# Altium footprint library Sykam-LagerBauteile1.PcbLib: 24 footprints (part 1 of 2)
Each footprint in its own frame and in the unit in brackets; x right, y up, seen from the top. Pads: shape width x height; smd on the part's side, far side on the other; paste and mask are expansions set on the pad; w line width, h text height; cw(c..) or ccw(c..) is an arc to the next point about the centre after c.
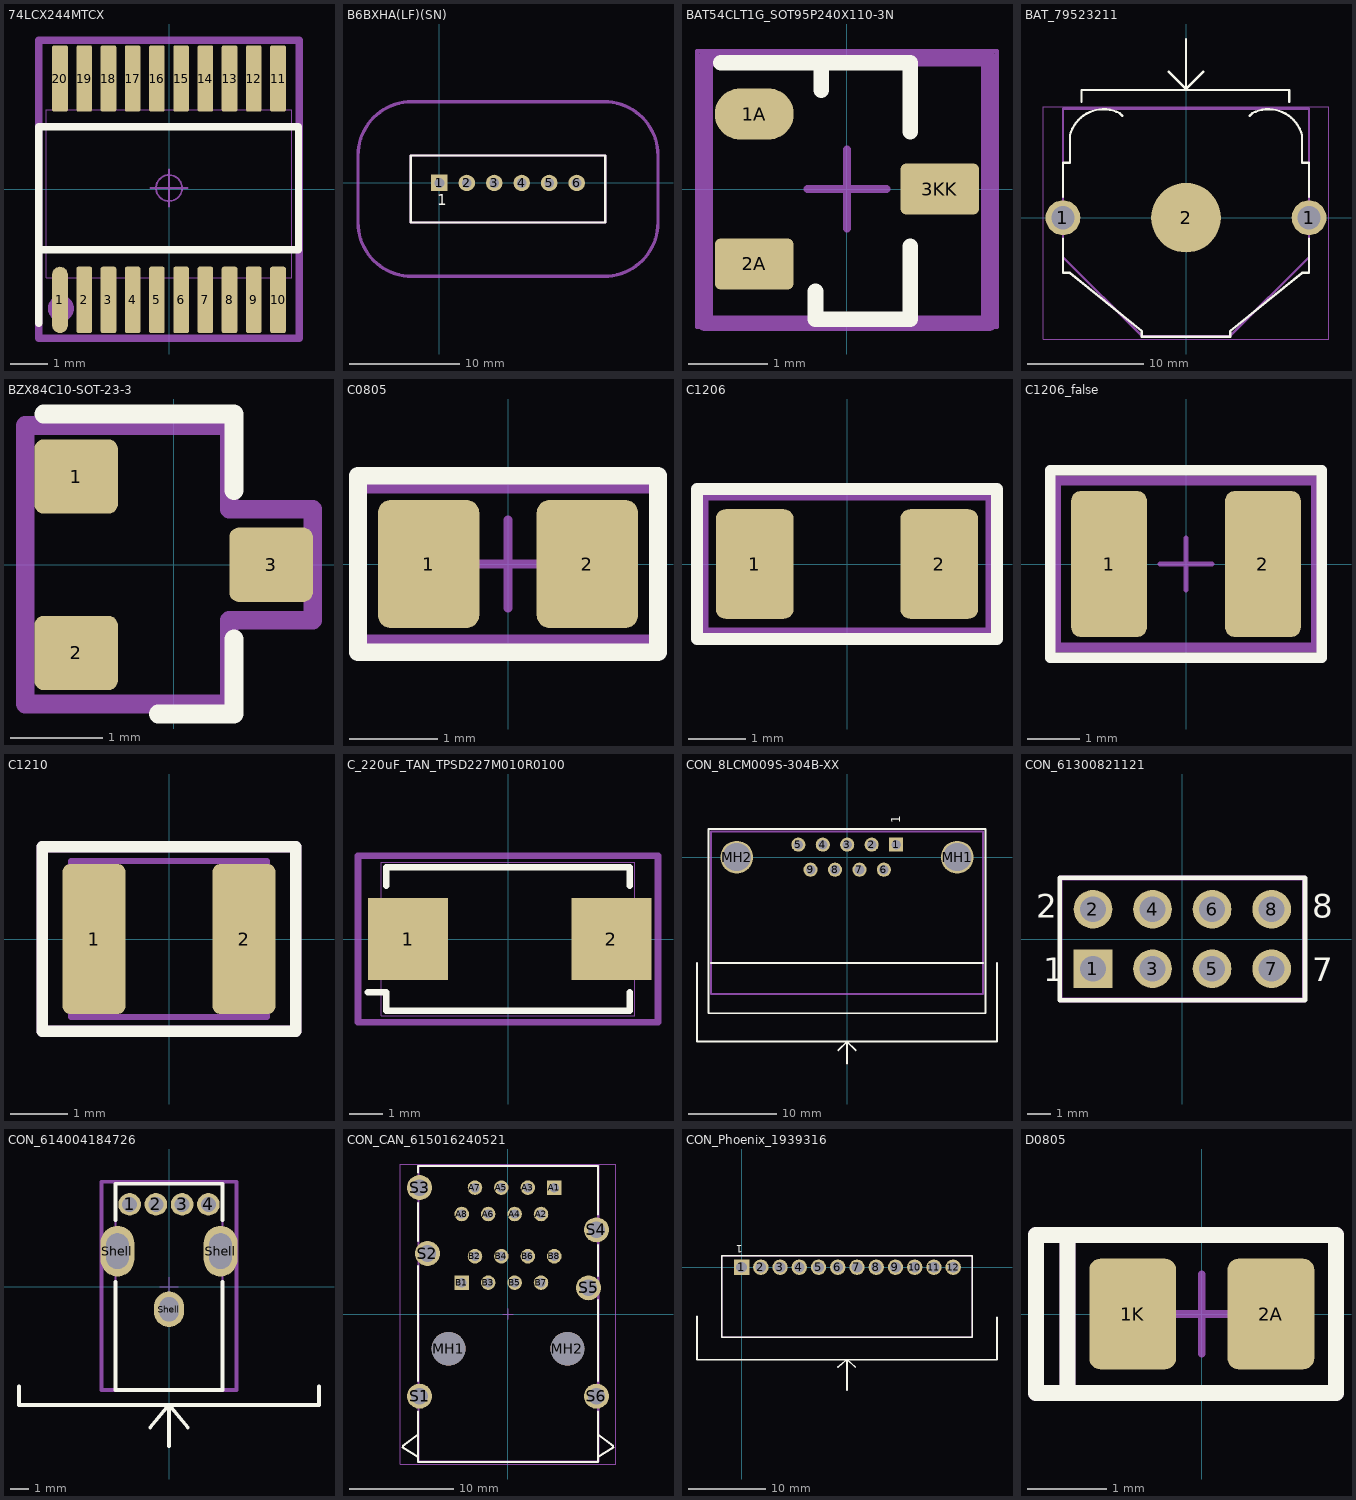
[diagram p0: the footprints below, top view; thin cyan lines are the x and y axes]

## 74LCX244MTCX [mm] "TSSOP20"
height 1.2
pads (20):
  oval 0.42x1.78 smd: 1(-2.925,-2.97)
  rrect25% 0.42x1.78 smd: 2(-2.275,-2.97) 3(-1.625,-2.97) 4(-0.975,-2.97) 5(-0.325,-2.97) 6(0.325,-2.97) 7(0.975,-2.97) 8(1.625,-2.97) 9(2.275,-2.97) 10(2.925,-2.97) 11(2.925,2.97) 12(2.275,2.97) 13(1.625,2.97) 14(0.975,2.97) 15(0.325,2.97) 16(-0.325,2.97) 17(-0.975,2.97) 18(-1.625,2.97) 19(-2.275,2.97) 20(-2.925,2.97)
Top Overlay:
  lines w0.2: -3.5,-3.6 -3.5,-2.3 -3.5,-1.62 ; -3.5,1.675 -3.5,-1.62 ; -3.5,1.68 3.475,1.68 3.475,-1.62 -3.5,-1.62
Mechanical 1:
  circle w0.05: c0,0.03 r0.35
  lines w0.05: -0.5,0.03 0.5,0.03 ; 0,-0.47 0,0.53 ; -3.5,-4.02 3.5,-4.02 3.5,4.03 -3.5,4.03 -3.5,-4.02
Mechanical 2:
  lines w0.001: -3.3,-2.37 3.3,-2.37 3.3,2.13 -3.3,2.13 -3.3,-2.37
Top Assembly:
  circle w0.254: c-2.9,-3.2 r0.224
  lines w0.2: -3.5,-4 -3.5,4 3.5,4 3.5,-4 -3.5,-4
  text ".designator" at -7.62,-0.508 h1.52
3D body: height 1.2, standoff 0, extent -3.3,-2.37 3.3,2.13

## B6BXHA(LF)(SN) [mm] "B6BXHA(LF)(SN) 6pol 2.5mm"
pads (6):
  rect 1.5x1.5 hole 0.9: 1(0,0)
  round 1.5 hole 0.9: 2(2.5,0) 3(5,0) 4(7.5,0) 5(10,0) 6(12.5,0)
Top Overlay:
  lines w0.2: -2.6,-3.6 -2.6,2.5 15.1,2.5 15.1,-3.6 -2.6,-3.6
  text "1" at -0.167,-2.046 h1
Top Assembly:
  circle w0.254: c0,0 r0.224
  lines w0.2: -2.6,-3.6 15.1,-3.6 15.1,2.5 -2.6,2.5 -2.6,-3.6
  text "1" at -0.167,-2.046 h1
  text ".designator" at -1.618,-0.338 h1.52
Mechanical 13:
  lines w0.3: -7.4,2.4 -7.4,-3.6 ccw(c-2.5,-3.6) -2.5,-8.5 15,-8.5 ccw(c15,-3.6) 19.9,-3.6 19.9,2.4 ; -7.4,2.5 cw(c-2.5,2.5) -2.5,7.4 15,7.4 cw(c15,2.5) 19.9,2.5
3D body "B6BXHA(LF)(SN).STEP": height 7.1, standoff -3.3, extent -2.45,-3.4 14.95,2.35

## BAT54CLT1G_SOT95P240X110-3N [mm] "SOT23, 3-Leads, Body 2,90x2,40mm, Pitch 0,95mm, IPC Medium Density"
height 1.1
pads (3):
  oval 1x0.65 smd: 1A(-1.175,0.95)
  rrect25% 1x0.65 smd: 2A(-1.175,-0.95) 3KK(1.175,0)
Top Overlay:
  lines w0.2: -1.6,1.6 -0.325,1.6 ; -0.4,-1.3 -0.4,-1.65 -0.325,-1.65 0.8,-1.65 0.8,-0.725 ; -0.325,1.25 -0.325,1.6 ; 0.8,0.725 0.8,1.6 -0.325,1.6
Top Assembly:
  circle w0.254: c-1.2,1 r0.1
  lines w0.2: -1.8,-1.7 -1.8,1.65 1.8,1.65 1.8,-1.7 -1.8,-1.7
  text ".designator" at -5.048,-0.467 h1
Mechanical 15:
  lines w0.05: -1.9,-1.75 -1.9,1.75 1.9,1.75 1.9,-1.75 -1.9,-1.75
  lines w0.1: -0.5,0 0.5,0 ; 0,-0.5 0,0.5
3D body "BSS84P_SOT95P240X110-3N.step": height 1.1, standoff 0, extent -1.325,-1.5 1.325,1.5

## BAT_79523211 [mm] "Battery Holder, Battery Type: 2016,2020,2025,2032"
height 3.8
pads (3):
  round 3 hole 2: 1(-10.6,0) 1(10.6,0)
  round 6 smd mask+0.2: 2(0,0)
Top Overlay:
  lines w0.2: -10.6,-1.8 -10.6,-4.75 -10,-4.75 -3.81,-9.762 -3.81,-10.25 3.81,-10.25 3.81,-9.762 10,-4.75 10.6,-4.75 10.6,-1.8 ; -10.6,1.8 -10.6,4.75 -10,4.75 -10,7.126 ; -9.998,7.126 cw(c-7.1,6.35) -5.737,9.023 ; -9,10 -9,11 8.9,11 8.9,10 ; -5.709,8.991 ccw(c-4.45,10.15) -5.469,8.775 ; -1.5,12.6 0,11.1 ; 0,15.4 0,11.1 ; 1.5,12.6 0,11.1 ; 5.469,8.775 ccw(c4.45,10.15) 5.709,8.991 ; 5.737,9.023 cw(c7.1,6.35) 9.998,7.126 ; 10,7.126 10,4.75 10.6,4.75 10.6,1.8
Top Assembly:
  lines w0.2: -10.6,-3.4 -10.6,1.8 -10.6,9.4 10.6,9.4 10.6,-3.4 3.8,-10.2 -3.8,-10.2 -10.6,-3.4
  text ".designator" at -7.618,-0.438 h1.52
Mechanical 15:
  lines w0.05: -0.5,0 0.5,0 ; 0,-0.5 0,0.5 ; -12.3,-10.45 12.3,-10.45 12.3,9.55 -12.3,9.55 -12.3,-10.45
3D body "79523211.stp": height 4.02, standoff -2.1, extent -11.299,-10.25 11.299,9.35

## BZX84C10-SOT-23-3 [mm] "SOT23, 3-Leads, Body 2.92x1.3mm, Pitch 0.95mm"
height 1.11
pads (3):
  rrect25% 0.9x0.8 smd: 1(-1.05,0.95) 2(-1.05,-0.95) 3(1.05,0)
Top Overlay:
  lines w0.2: -1.4,1.624 0.65,1.624 0.65,0.8 ; -0.165,-1.608 0.65,-1.608 0.65,-0.8
Top Assembly:
  circle w0.254: c-1.025,0.975 r0.195
  lines w0.2: -1.6,-1.5 -1.6,1.5 0.6,1.5 0.6,0.6 1.5,0.6 1.5,-0.6 0.6,-0.6 0.6,-1.5 -1.6,-1.5
  text ".designator" at -0.117,-3.999 h0.8
3D body "SOT23-3.stp": height 1.2, standoff 0.02, extent -1.418,-1.5 1.418,1.5

## C0805 [mm] "Chip Capacitor, 2-Leads, Body 2,00x1,25mm, IPC Medium Density"
height 1.1
pads (2):
  rrect25% 1.15x1.45 smd: 1(-0.9,0) 2(0.9,0)
Top Overlay:
  lines w0.2: -1.7,-1 -1.7,1 1.7,1 1.7,-1 -1.7,-1
Top Assembly:
  lines w0.2: -1.7,-0.9 -1.7,0.9 1.7,0.9 1.7,-0.9 -1.7,-0.9
  text ".designator" at -3.999,-0.183 h0.8
Mechanical 15:
  lines w0.05: -1.7,-1 -1.7,1 1.7,1 1.7,-1 -1.7,-1
  lines w0.1: -0.5,0 0.5,0 ; 0,-0.5 0,0.5
3D body "C0805.step": height 1.1, standoff 0, extent -1.075,-0.7 1.075,0.7

## C1206 [mm] "Chip Capacitor, 2-Leads, Body 3,35x2,50mm, IPC Medium Density"
height 2.3
pads (2):
  rrect25% 1.35x1.9 smd: 1(-1.6,0) 2(1.6,0)
Top Overlay:
  lines w0.2: -2.6,-1.3 -2.6,1.3 2.6,1.3 2.6,-1.3 -2.6,-1.3
Top Assembly:
  lines w0.2: -2.5,-1.2 -2.5,1.2 2.5,1.2 2.5,-1.2 -2.5,-1.2
  text ".designator" at -4.998,-0.317 h1
3D body "C1206-C104K5RAC7210.step": height 0.88, standoff 0, extent -1.7,-0.9 1.7,0.9

## C1206_false [mm] "Chip Capacitor, 2-Leads, Body 3,35x2,50mm, IPC Medium Density"
height 2.3
pads (2):
  rrect25% 1.45x2.8 smd: 1(-1.475,0) 2(1.475,0)
Top Overlay:
  lines w0.2: -2.6,-1.8 2.6,-1.8 2.6,1.8 -2.6,1.8 -2.6,-1.8
Top Assembly:
  lines w0.2: -2.5,-1.6 2.5,-1.6 2.5,1.6 -2.5,1.6 -2.5,-1.6
  text ".designator" at -4.998,-0.317 h1
Mechanical 15:
  lines w0.05: -2.45,-1.65 2.45,-1.65 2.45,1.65 -2.45,1.65 -2.45,-1.65
  lines w0.1: -0.5,0 0.5,0 ; 0,-0.5 0,0.5
3D body "C1206.step": height 2.3, standoff 0, extent -1.85,-1.4 1.85,1.4

## C1210 [mm] "Chip Capacitor, 2-Leads, Body 3.40x2.70mm, IPC High Density"
height 2.8
pads (2):
  rrect25% 1.1x2.6 smd: 1(-1.3,0) 2(1.3,0)
Top Overlay:
  lines w0.2: -2.2,-1.6 2.2,-1.6 2.2,1.6 -2.2,1.6 -2.2,-1.6
Top Assembly:
  lines w0.2: -2.2,-1.6 -2.2,1.6 2.2,1.6 2.2,-1.6 -2.2,-1.6
  text ".designator" at -4.998,-0.317 h1
Mechanical 13:
  lines w0.1: -1.7,-1.35 1.7,-1.35 1.7,1.35 -1.7,1.35 -1.7,-1.35
3D body "CAPC3225X28L.step": height 2.8, standoff 0, extent -1.7,-1.35 1.7,1.35

## C_220uF_TAN_TPSD227M010R0100 [mm]
height 2.8
pads (2):
  rect 2.4x2.45 smd: 1(-3,0) 2(3.1,0)
Top Overlay:
  lines w0.2: -4.2,-1.6 -3.65,-1.6 -3.65,-2.15 3.65,-2.15 3.65,-1.6 ; -3.65,1.6 -3.65,2.15 3.65,2.15 3.65,1.6
Mechanical 2:
  lines w0.001: -3.8,-2.3 3.8,-2.3 3.8,2.3 -3.8,2.3 -3.8,-2.3
Top Assembly:
  lines w0.2: -4.5,-2.5 4.5,-2.5 4.5,2.5 -4.5,2.5 -4.5,-2.5
  text ".designator" at -7.718,-0.538 h1.52
3D body: height 2.8, standoff 0, extent -2.9,-2.3 3.8,2.3
3D body: height 2.8, standoff 0, extent -3.8,-2.3 -2.9,2.3

## CON_8LCM009S-304B-XX [mm] "Connector, Body 30.8x18.4mm, Pitch 2.77mm"
height 12.75
pads (11):
  rect 1.6x1.6 hole 1.09: 1(5.565,1.42)
  round 1.6 hole 1.09: 2(2.795,1.42) 3(0.025,1.42) 4(-2.745,1.42) 5(-5.515,1.42) 6(4.18,-1.42) 7(1.41,-1.42) 8(-1.36,-1.42) 9(-4.13,-1.42)
  round 3.7 hole 3.18: MH1(12.495,0) MH2(-12.495,0)
Top Overlay:
  lines w0.2: -17,-12 -17,-15.5 -17,-20.9 17,-20.9 17,-15.5 17,-12 ; -15.4,-12 0,-12 15.4,-12 ; -1,-21.9 0,-20.9 ; 0,-23.4 0,-20.9 ; 1,-21.9 0,-20.9 ; -15.7,-17.7 15.7,-17.7 15.7,3.2 -15.7,3.2 -15.7,-17.7
  text "1" at 6.046,3.854 h1
Top Assembly:
  circle w0.254: c5.6,1.4 r0.361
  lines w0.2: -15.4,-15.5 15.4,-15.5 15.4,2.9 -15.4,2.9 -15.4,-15.5
  text ".designator" at -7.518,-6.538 h1.52
3D body "CON-THT-DB9-RS232-L.STEP": height 12.65, standoff -3.95, extent -15.618,-17.5 15.618,3.1

## CON_61300821121 [mm] "Pin Header, pitch 2.54 mm, THT, Vertical, dual row, 8p"
height 8.54
pads (8):
  rect 1.65x1.65 hole 1.1: 1(-3.81,-1.27)
  round 1.65 hole 1.1: 2(-3.81,1.27) 3(-1.27,-1.27) 4(-1.27,1.27) 5(1.27,-1.27) 6(1.27,1.27) 7(3.81,-1.27) 8(3.81,1.27)
Top Overlay:
  lines w0.2: -5.23,-2.615 5.23,-2.615 5.23,2.615 -5.23,2.615 -5.23,-2.615
  text "8" at 5.54,0.9 h1.02
  text "7" at 5.54,-1.8 h1.02
  text "2" at -6.24,0.9 h1.02
  text "1" at -5.94,-1.8 h1.02
Top Assembly:
  circle w0.254: c-3.8,-1.3 r0.283
  lines w0.2: -5.2,-2.6 5.2,-2.6 5.2,2.6 -5.2,2.6 -5.2,-2.6
  text ".designator" at -7.618,-0.538 h1.52
3D body "61300821121.stp": height 8.59, standoff -2.95, extent -5.08,-2.54 5.08,2.54

## CON_614004184726 [mm] "USB 2.0 Type A Up Right THT"
height 14.2
pads (7):
  round 1.2 hole 0.8: 1(-2.1,4.4) 2(-0.7,4.4) 3(0.7,4.4) 4(2.1,4.4)
  oval 1.8x2.7 hole 1.2 slot 1.9 at 90 deg: Shell(-2.75,1.9) Shell(2.75,1.9)
  oval 1.6x1.9 hole 1 slot 1.3 at 90 deg: Shell(0,-1.2)
Top Overlay:
  lines w0.2: -8,-5.3 -8,-6.3 0,-6.3 ; -2.86,0.25 -2.86,-5.5 2.86,-5.5 2.86,0.25 ; -2.86,3.55 -2.86,5.5 2.86,5.5 2.86,3.55 ; -1,-7.5 0,-6.3 ; 0,-8.5 0,-6.3 ; 1,-7.5 0,-6.3 ; 8,-5.3 8,-6.3 0,-6.3
Top Assembly:
  circle w0.254: c-2.1,4.4 r0.224
  lines w0.2: -3.6,-5.5 -3.6,5.6 3.6,5.6 3.6,-5.5 -3.6,-5.5
  text ".designator" at -7.618,-0.538 h1.52
Mechanical 13:
  lines w0.1: -2.86,-5.5 2.86,-5.5 2.86,5.5 -2.86,5.5 -2.86,-5.5
Mechanical 15:
  lines w0.05: -0.5,0 0.5,0 ; 0,-0.5 0,0.5
3D body "614004184726.stp": height 14.27, standoff -2.77, extent -3.56,-5.5 3.56,5.5

## CON_CAN_615016240521 [mm] "Modular Jack Horizontal Shielded Dual Stacked with EMI Panel Finger 8P8C Tab Up&Down"
height 25.2
pads (24):
  rect 1.4x1.4 hole 0.9: A1(4.445,12.155) B1(-4.445,3.015)
  round 1.4 hole 0.9: A2(3.175,9.615) A3(1.905,12.155) A4(0.635,9.615) A5(-0.635,12.155) A6(-1.905,9.615) A7(-3.175,12.155) A8(-4.445,9.615) B2(-3.175,5.555) B3(-1.905,3.015) B4(-0.635,5.555) B5(0.635,3.015) B6(1.905,5.555) B7(3.175,3.015) B8(4.445,5.555)
  round 3.25 hole 3.25 unplated: MH1(-5.715,-3.335) MH2(5.715,-3.335)
  round 2.4 hole 1.6: S1(-8.505,-7.905) S2(-7.745,5.815) S3(-8.505,12.155) S4(8.505,8.095) S5(7.745,2.515) S6(8.505,-7.905)
Top Overlay:
  lines w0.2: -8.635,-13.755 -10.118,-12.828 -10.103,-12.702 -8.635,-11.555 ; -8.635,-9.375 -8.635,-14.225 8.635,-14.225 8.635,-9.375 ; -8.635,-6.435 -8.635,4.625 ; -8.635,7.005 -8.635,10.675 ; -8.635,13.635 -8.635,14.225 8.635,14.225 8.635,9.575 ; 8.635,-13.755 10.118,-12.828 10.103,-12.702 8.635,-11.555 ; 8.635,-6.425 8.635,1.355 ; 8.635,3.675 8.635,6.615
Top Assembly:
  lines w0.2: -8.6,-14.2 8.7,-14.2 8.7,14.3 -8.6,14.3 -8.6,-14.2
  text ".designator" at -7.62,-0.508 h1.52
  text "A1" at 3.834,11.754 h1
  text "B1" at -5.066,2.554 h1
Mechanical 13:
  lines w0.1: -8.635,-13.755 -10.118,-12.828 -10.103,-12.702 -8.635,-11.555 ; 8.635,-13.755 10.118,-12.828 10.103,-12.702 8.635,-11.555 ; -8.635,-14.225 8.635,-14.225 8.635,14.225 -8.635,14.225 -8.635,-14.225
Mechanical 15:
  lines w0.05: -0.5,0 0.5,0 ; 0,-0.5 0,0.5 ; -10.34,-14.425 10.34,-14.425 10.34,14.425 -10.34,14.425 -10.34,-14.425
3D body "615016240521 (rev1).stp": height 25.27, standoff -4.08, extent -10.136,-14.225 10.136,14.225

## CON_Phoenix_1939316 [mm] "MC0.5/12-G-2.5 THT 12pol 2.5mm"
pads (12):
  rect 2x2 hole 1.4: 1(0,0)
  round 2 hole 1.4: 2(2.5,0) 3(5,0) 4(7.5,0) 5(10,0) 6(12.5,0) 7(15,0) 8(17.5,0) 9(20,0) 10(22.5,0) 11(25,0) 12(27.5,0)
Top Overlay:
  lines w0.2: -5.8,-6.4 -5.8,-9 -5.8,-12 13.7,-12 ; 12.5,-13 13.7,-12 ; 13.7,-16 13.7,-12 ; 14.8,-13 13.7,-12 ; 33.2,-6.5 33.2,-9 33.2,-12 13.7,-12 ; -2.6,-9.1 -2.6,1.5 30,1.5 30,-9.1 -2.6,-9.1
  text "1" at 0.167,2.846 h1
Top Assembly:
  circle w0.254: c0,0 r0.224
  lines w0.2: -2.6,-9.1 30,-9.1 30,1.5 -2.6,1.5 -2.6,-9.1
  text "1" at -0.167,-2.046 h1
  text ".designator" at 20.418,-1.162 h1.52
3D body "MC-0-5-12-G-2-5-THT.stp": height 8.2, standoff -3.4, extent -2.2,-8.9 29.7,1.2

## D0805 [mm] "Chip Resistor, 2-Leads, Body 2,00x1,25mm, IPC Medium Density"
height 0.65
pads (2):
  rrect25% 1.1x1.4 smd: 1K(-0.875,0) 2A(0.875,0)
Top Overlay:
  lines w0.2: -1.7,-1 1.7,-1 1.7,1 -1.7,1 ; -1.7,-1 -1.7,1 ; -1.7,-1 -2.1,-1 -2.1,1 -1.7,1
Top Assembly:
  lines w0.2: -1.7,-1 1.7,-1 1.7,1 -1.7,1 ; -1.7,-1 -1.7,1 ; -1.7,-1 -2.1,-1 -2.1,1 -1.7,1
  text ".designator" at -2.999,-0.15 h0.6
Mechanical 15:
  lines w0.05: -1.7,-0.95 1.7,-0.95 1.7,0.95 -1.7,0.95 -1.7,-0.95
  lines w0.1: -0.5,0 0.5,0 ; 0,-0.5 0,0.5
3D body "User Library-0805_D.STEP": height 0.95, standoff 0, extent -1.1,-0.725 1.1,0.725